# EAGLE library part LT3060 (library NMR-relaxometry)
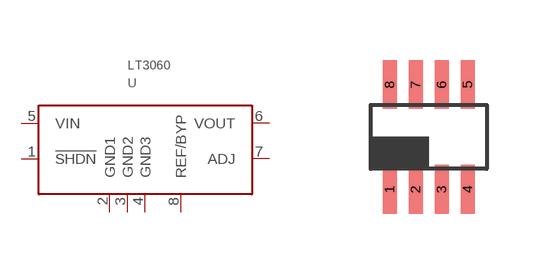
[diagram p10: symbol with the pads of TSOT-8; footprint TSOT-8]

Designator prefix -

## LT3060  [TSOT-8]
1  !SHDN  in
2  GND1  pwr
3  GND2  pwr
4  GND3  pwr
5  VIN  pwr
6  VOUT  pwr
7  ADJ  pas
8  REF/BYP  pas

## Footprint TSOT-8 (pad centres in mm)
smd 0.35 x 1.22: 1 -0.975,-1.31; 2 -0.325,-1.31; 3 0.325,-1.31; 4 0.975,-1.31; 5 0.975,1.31; 6 0.325,1.31; 7 -0.325,1.31; 8 -0.975,1.31